# EAGLE library part ADS1018 (library WarthogRobotics-IC-Special_Function)
Ultrasmall, Low-Power, SPI™-Compatible, 12-Bit, Analog-to-Digital Converter With Internal Reference and Temperature Sensor
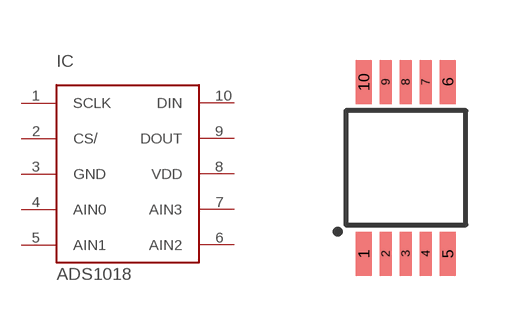
[diagram p4: symbol with the pads of TSSOP10(S-PDSO-G10); footprint TSSOP10(S-PDSO-G10)]

Designator prefix IC

## ADS1018  [TSSOP10(S-PDSO-G10)]
1  SCLK
2  CS/
3  GND
4  AIN0
5  AIN1
6  AIN2
7  AIN3
8  VDD
9  DOUT
10  DIN

## Footprint TSSOP10(S-PDSO-G10) (pad centres in mm)
smd 0.4 x 1.1: 1 -1.05,-2.15; 5 1.05,-2.15; 6 1.05,2.15; 10 -1.05,2.15
smd 0.3 x 1.1: 2 -0.5,-2.15; 3 0,-2.15; 4 0.5,-2.15; 7 0.5,2.15; 8 0,2.15; 9 -0.5,2.15